# Altium schematic symbol library LTST-C230KGKT.SchLib: 1 symbol
Pins are listed as number, name and electrical type; pins without a type are passive.

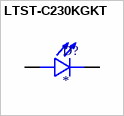
[diagram p0: symbol LTST-C230KGKT]

## LTST-C230KGKT
designator D?
Green 571nm LED Indication - Discrete 2V 1206 (3216 Metric); MF: Lite-On Inc.; MP: LTST-C230KGKT; SnapEDA_Link: https://www.snapeda.com/parts/LTST-C230KGKT/Lite-On/view-part/?ref=snap; Package: 1206 Lite-On; Value: *; Check_prices: https://www.snapeda.com/parts/LTST-C230KGKT/Lite-On/view-part/?ref=eda
footprint LED_LTST-C230KGKT
pins: A, C